# Altium schematic symbol library Schlib1.SchLib: 4 symbols
Pins are listed as number, name and electrical type; pins without a type are passive.

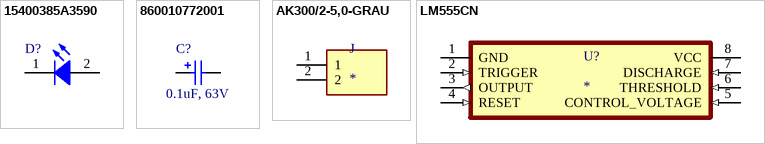
[diagram p0: symbols 15400385A3590 to LM555CN]

## 15400385A3590
designator D?
WL-TIRW THT Infrared Round Waterclear, D3.9H5.3, 60mW/sr, 1.5V, 35deg; Manufacturer Part Number: 15400385A3590; Manufacturer: Wurth Elektronik; Peak Wavelength: 850nm; Chip Technology: AlGaAs; Centroid Wavelength: 845nm; ComponentLink1Description: Manufacturer; ComponentLink1URL: http://www.we-online.de; ComponentLink2Description: Datasheet; ComponentLink2URL: https://www.we-online.com/catalog/datasheet/15400385A3590.pdf; Operating Temperature: -40 to +85degC; Emitting Color: Infrared; Forward Voltage: 1.5V; Packaging: Bulk; Mounting Technology: THT; Published Date: August 2020; Radiant Intensity typ.: 60mW/sr; Size: D3.9H5.3; Viewing Angle: 35deg
footprint WL-TIRW_D3.9H5.3
pins: 1 K, 2 A

## 860010772001
designator C?, comment 0.1uF, 63V
WCAP-ATG8 Aluminum Electrolytic Capacitor, Radial, THT, D5xH11, 0.1uF, 63V; Manufacturer Part Number: 860010772001; Manufacturer: Wurth Elektronik; Ripple Current: 4mA; Rated Voltage: 63VDC; Technical Reference: ATBC110R10M063DSPA3B000; Leakage Current: 3uA; Endurance: 2000h; Dissipation Factor: 9%; Capacitance Tolerance: +/-20%; ComponentLink2Description: Datasheet; Published Date: October 2020; Packaging: Ammo Pack; Operating Temperature: -40 to +85degC; Mounting Technology: THT; Height: 11mm; Diameter: 5mm; ComponentLink2URL: https://www.we-online.com/catalog/datasheet/860010772001.pdf; ComponentLink1URL: http://www.we-online.de; ComponentLink1Description: Manufacturer; Capacitance: 0.1uF
footprint WCAP-ATG8_D5H11
pins: 1 P, 2 N

## AK300/2-5,0-GRAU
designator J
Terminal block; 5mm; angled 45Â°; ways: 2; MF: PTR Messtechnik; MP: AK300/2-5,0-GRAU; Value: *; SnapEDA_Link: https://www.snapeda.com/parts/AK300/2-5%2C0-GRAU/PTR%20Messtechnik/view-part/556894/?ref=snap; Package: None; Availability: Unavailable; Price: None
footprint PTR_AK300/2-5,0-GRAU
pins: 1, 2

## LM555CN
designator U?
MP: LM555CN/NOPB; MF: {'manufacturer': u'ON Semiconductor'}; Package: None; Value: *; Price: None; Availability: Unavailable
footprint DIP794W45P254L959H508Q8
pins: 1 GND (power), 2 TRIGGER (in), 3 OUTPUT (out), 4 RESET (in), 5 CONTROL_VOLTAGE (in), 6 THRESHOLD (in), 7 DISCHARGE (in), 8 VCC (power)